# Altium integrated library Analog Devices Switches and Multiplexers Multiplexers (Muxes).IntLib: 481 symbols (part 23 of 23)
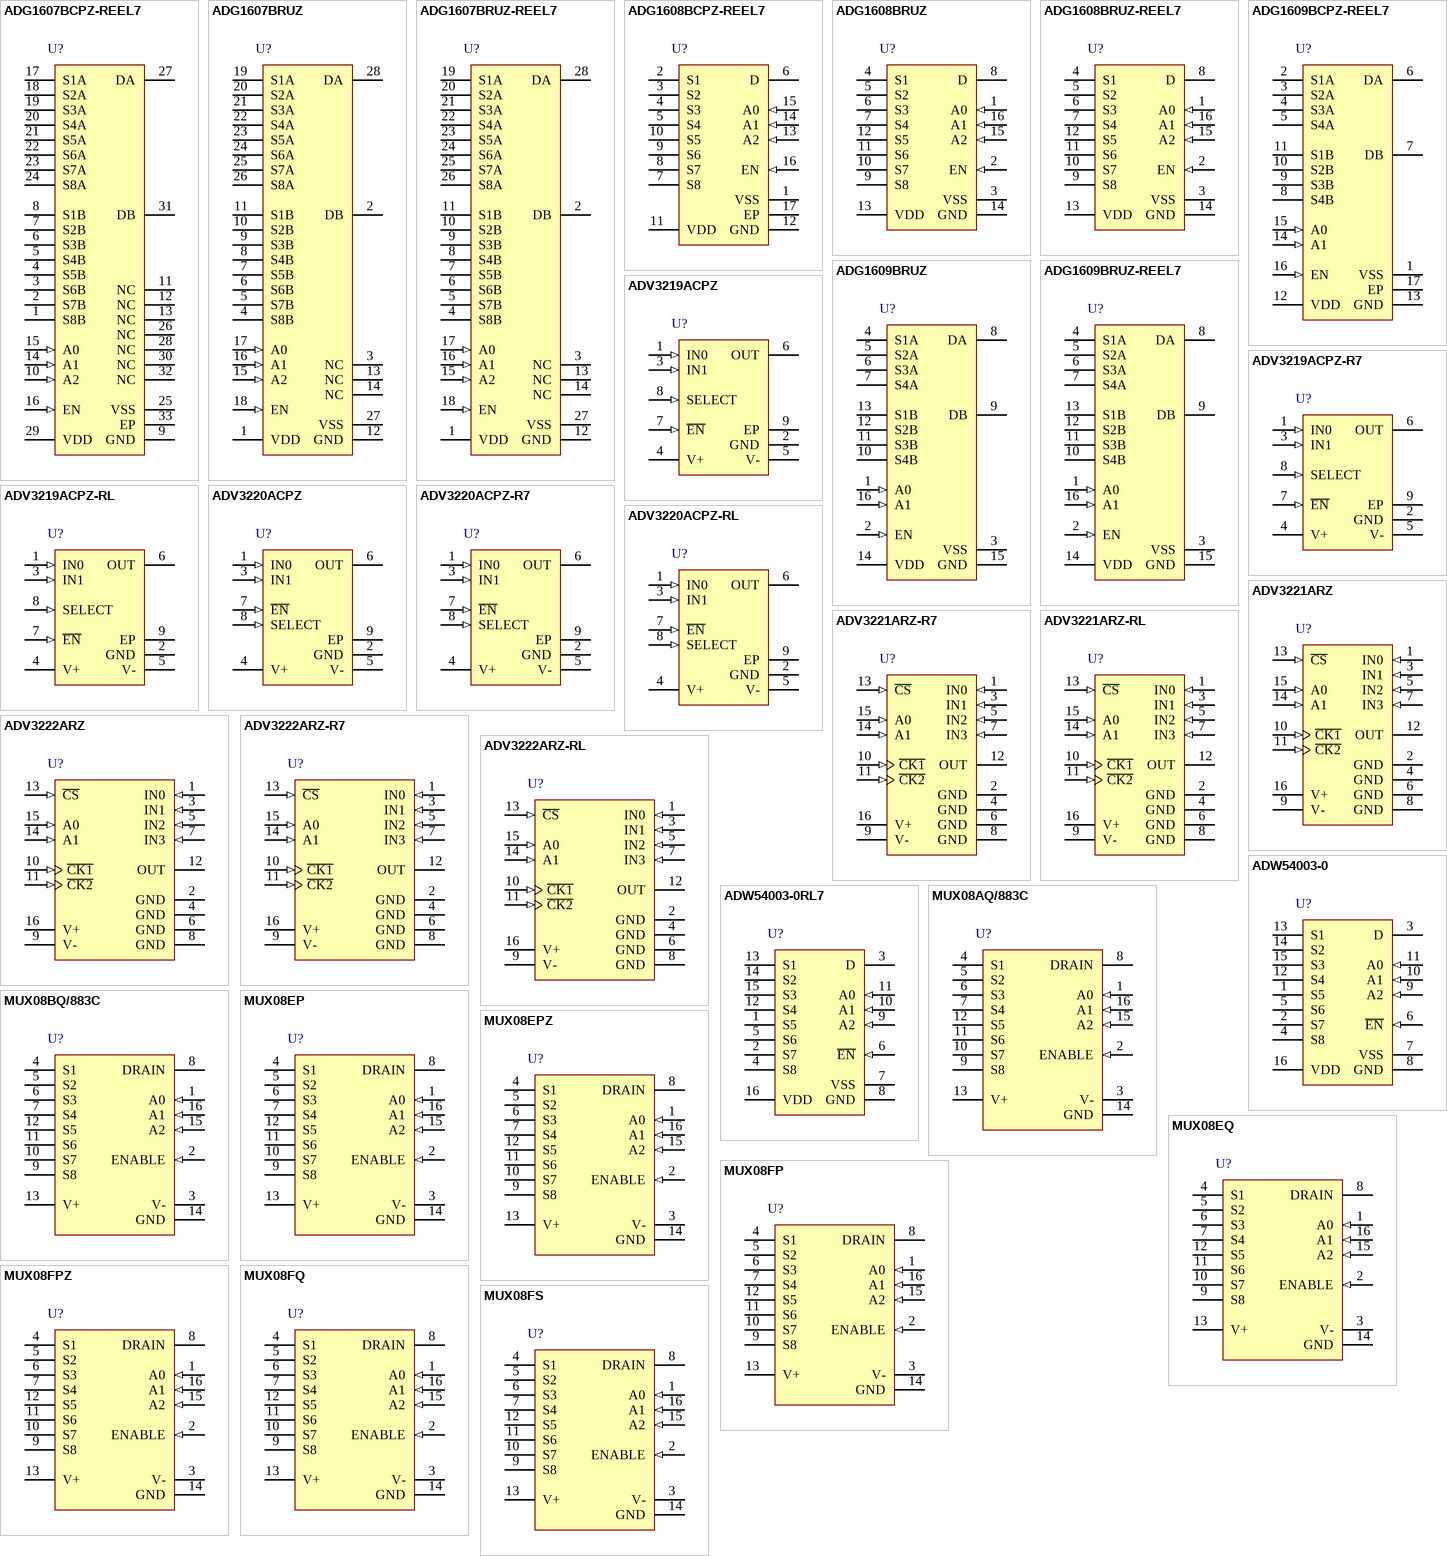
[diagram p39: symbols ADG1607BCPZ-REEL7 to MUX08FS]

## ADV3221ARZ-RL
designator U?
1000 MHz, 4:1 Analog Multiplexer, 5 ns, -40 to 85 degC, 16-pin SOIC (R-16), Reel; Manufacturer: Analog Devices; PartNumber: ADV3221ARZ-RL; Bandwidth (Hz): 1000M; Max Analog Signal Range: +/-3V; Supply V Guar Performance: Dual_(+/-5V); t transition (s): 1n; DatasheetVersion: Rev. 0; PackageVersion: 060606-A, 06/2006; PackageReference: R-16; PackageDescription: 16-Pin Standard Small Outline Package, Body 9.9 x 3.9 mm, Pitch 1.27 mm; Supplier 1: Digi-Key; Supplier Part Number 1: ADV3221ARZ-RL-ND; Supplier 2: Mouser; Supplier Part Number 2: 584-ADV3221ARZ-R; Packing: Reel; Mounting Technology: Surface Mount; Code_JEDEC: MS-012-AC; ComponentLink1Description: Manufacturer URL; ComponentLink1URL: http://www.analog.com/en/index.html; ComponentLink2Description: Datasheet; ComponentLink2URL: http://www.analog.com/static/imported-files/data_sheets/ADV3221_3222.pdf; ComponentLink3Description: Package Specification; ComponentLink3URL: http://www.analog.com/static/imported-files/packages/PKG_PDF/SOIC_Narrow%20(R)/R_16.pdf
footprint ADI-R-16_N (SOIC, 16-Leads, Body 9.9x3.9mm, Pitch 1.27mm, IPC Medium Density)
footprint ADI-R-16_L (SOIC, 16-Leads, Body 9.9x3.9mm, Pitch 1.27mm, IPC High Density)
footprint ADI-R-16_M (SOIC, 16-Leads, Body 9.9x3.9mm, Pitch 1.27mm, IPC Low Density)
pins: 1 IN0 (in) "Analog Input", 2 GND (power) "Ground", 3 IN1 (in) "Analog Input", 4 GND (power) "Ground", 5 IN2 (in) "Analog Input", 6 GND (power) "Ground", 7 IN3 (in) "Analog Input", 8 GND (power) "Ground", 9 V- (power) "Negative Power Supply", 10 ~{CK1} (in) "First Rank Clock", 11 ~{CK2} (in) "Second Rank Clock", 12 OUT (hiz) "Analog Output", 13 ~{CS} (in) "Chip Select (Output Enable)", 14 A1 (in) "Select Address Most Significant Bit", 15 A0 (in) "Select Address Least Significant Bit", 16 V+ (power) "Positive Power Supply"

## ADV3222ARZ
designator U?
800 MHz, 4:1 Analog Multiplexer, 5 ns, -40 to 85 degC, 16-pin SOIC (R-16), Tube; Manufacturer: Analog Devices; PartNumber: ADV3222ARZ; Bandwidth (Hz): 800M; Max Analog Signal Range: +/-1.5V; Supply V Guar Performance: Dual_(+/-5V); t transition (s): 1n; DatasheetVersion: Rev. 0; PackageVersion: 060606-A, 06/2006; PackageReference: R-16; PackageDescription: 16-Pin Standard Small Outline Package, Body 9.9 x 3.9 mm, Pitch 1.27 mm; Supplier 1: Digi-Key; Supplier Part Number 1: ADV3222ARZ-ND; Supplier 2: Newark; Supplier Part Number 2: 74R5952; Supplier 3: Mouser; Supplier Part Number 3: 584-ADV3222ARZ; Packing: Tube; Mounting Technology: Surface Mount; Code_JEDEC: MS-012-AC; ComponentLink1Description: Manufacturer URL; ComponentLink1URL: http://www.analog.com/en/index.html; ComponentLink2Description: Datasheet; ComponentLink2URL: http://www.analog.com/static/imported-files/data_sheets/ADV3221_3222.pdf; ComponentLink3Description: Package Specification; ComponentLink3URL: http://www.analog.com/static/imported-files/packages/PKG_PDF/SOIC_Narrow%20(R)/R_16.pdf
footprint ADI-R-16_N (SOIC, 16-Leads, Body 9.9x3.9mm, Pitch 1.27mm, IPC Medium Density)
footprint ADI-R-16_L (SOIC, 16-Leads, Body 9.9x3.9mm, Pitch 1.27mm, IPC High Density)
footprint ADI-R-16_M (SOIC, 16-Leads, Body 9.9x3.9mm, Pitch 1.27mm, IPC Low Density)
pins: 1 IN0 (in) "Analog Input", 2 GND (power) "Ground", 3 IN1 (in) "Analog Input", 4 GND (power) "Ground", 5 IN2 (in) "Analog Input", 6 GND (power) "Ground", 7 IN3 (in) "Analog Input", 8 GND (power) "Ground", 9 V- (power) "Negative Power Supply", 10 ~{CK1} (in) "First Rank Clock", 11 ~{CK2} (in) "Second Rank Clock", 12 OUT (hiz) "Analog Output", 13 ~{CS} (in) "Chip Select (Output Enable)", 14 A1 (in) "Select Address Most Significant Bit", 15 A0 (in) "Select Address Least Significant Bit", 16 V+ (power) "Positive Power Supply"

## ADV3222ARZ-R7
designator U?
800 MHz, 4:1 Analog Multiplexer, 5 ns, -40 to 85 degC, 16-pin SOIC (R-16), Reel; Manufacturer: Analog Devices; PartNumber: ADV3222ARZ-R7; Bandwidth (Hz): 800M; Max Analog Signal Range: +/-1.5V; Supply V Guar Performance: Dual_(+/-5V); t transition (s): 1n; DatasheetVersion: Rev. 0; PackageVersion: 060606-A, 06/2006; PackageReference: R-16; PackageDescription: 16-Pin Standard Small Outline Package, Body 9.9 x 3.9 mm, Pitch 1.27 mm; Supplier 1: Digi-Key; Supplier Part Number 1: ADV3222ARZ-R7-ND; Supplier 2: Mouser; Supplier Part Number 2: 584-ADV3222ARZ-R7; Packing: Reel; Mounting Technology: Surface Mount; Code_JEDEC: MS-012-AC; ComponentLink1Description: Manufacturer URL; ComponentLink1URL: http://www.analog.com/en/index.html; ComponentLink2Description: Datasheet; ComponentLink2URL: http://www.analog.com/static/imported-files/data_sheets/ADV3221_3222.pdf; ComponentLink3Description: Package Specification; ComponentLink3URL: http://www.analog.com/static/imported-files/packages/PKG_PDF/SOIC_Narrow%20(R)/R_16.pdf
footprint ADI-R-16_N (SOIC, 16-Leads, Body 9.9x3.9mm, Pitch 1.27mm, IPC Medium Density)
footprint ADI-R-16_L (SOIC, 16-Leads, Body 9.9x3.9mm, Pitch 1.27mm, IPC High Density)
footprint ADI-R-16_M (SOIC, 16-Leads, Body 9.9x3.9mm, Pitch 1.27mm, IPC Low Density)
pins: 1 IN0 (in) "Analog Input", 2 GND (power) "Ground", 3 IN1 (in) "Analog Input", 4 GND (power) "Ground", 5 IN2 (in) "Analog Input", 6 GND (power) "Ground", 7 IN3 (in) "Analog Input", 8 GND (power) "Ground", 9 V- (power) "Negative Power Supply", 10 ~{CK1} (in) "First Rank Clock", 11 ~{CK2} (in) "Second Rank Clock", 12 OUT (hiz) "Analog Output", 13 ~{CS} (in) "Chip Select (Output Enable)", 14 A1 (in) "Select Address Most Significant Bit", 15 A0 (in) "Select Address Least Significant Bit", 16 V+ (power) "Positive Power Supply"

## ADV3222ARZ-RL
designator U?
800 MHz, 4:1 Analog Multiplexer, 5 ns, -40 to 85 degC, 16-pin SOIC (R-16), Reel; Manufacturer: Analog Devices; PartNumber: ADV3222ARZ-RL; Bandwidth (Hz): 800M; Max Analog Signal Range: +/-1.5V; Supply V Guar Performance: Dual_(+/-5V); t transition (s): 1n; DatasheetVersion: Rev. 0; PackageVersion: 060606-A, 06/2006; PackageReference: R-16; PackageDescription: 16-Pin Standard Small Outline Package, Body 9.9 x 3.9 mm, Pitch 1.27 mm; Supplier 1: Digi-Key; Supplier Part Number 1: ADV3222ARZ-RL-ND; Supplier 2: Mouser; Supplier Part Number 2: 584-ADV3222ARZ-R; Packing: Reel; Mounting Technology: Surface Mount; Code_JEDEC: MS-012-AC; ComponentLink1Description: Manufacturer URL; ComponentLink1URL: http://www.analog.com/en/index.html; ComponentLink2Description: Datasheet; ComponentLink2URL: http://www.analog.com/static/imported-files/data_sheets/ADV3221_3222.pdf; ComponentLink3Description: Package Specification; ComponentLink3URL: http://www.analog.com/static/imported-files/packages/PKG_PDF/SOIC_Narrow%20(R)/R_16.pdf
footprint ADI-R-16_N (SOIC, 16-Leads, Body 9.9x3.9mm, Pitch 1.27mm, IPC Medium Density)
footprint ADI-R-16_L (SOIC, 16-Leads, Body 9.9x3.9mm, Pitch 1.27mm, IPC High Density)
footprint ADI-R-16_M (SOIC, 16-Leads, Body 9.9x3.9mm, Pitch 1.27mm, IPC Low Density)
pins: 1 IN0 (in) "Analog Input", 2 GND (power) "Ground", 3 IN1 (in) "Analog Input", 4 GND (power) "Ground", 5 IN2 (in) "Analog Input", 6 GND (power) "Ground", 7 IN3 (in) "Analog Input", 8 GND (power) "Ground", 9 V- (power) "Negative Power Supply", 10 ~{CK1} (in) "First Rank Clock", 11 ~{CK2} (in) "Second Rank Clock", 12 OUT (hiz) "Analog Output", 13 ~{CS} (in) "Chip Select (Output Enable)", 14 A1 (in) "Select Address Most Significant Bit", 15 A0 (in) "Select Address Least Significant Bit", 16 V+ (power) "Positive Power Supply"

## ADW54003-0
designator U?
3 V / 5 V / +/-5 V, CMOS 8-Channel Analog Multiplexer, -40 to 125 degC, 16-pin SOP (RU-16), Tube; Manufacturer: Analog Devices; PartNumber: ADW54003-0; Bandwidth (Hz): 210M; Max Analog Signal Range: Vss to Vdd; Ron (ohms): 45; Supply V Guar Performance: Dual_(+/-5V), Single_(+3.3V), Single_(+3V), Single_(+5V); t transition (s): 80n; DatasheetVersion: Rev. B; PackageVersion: Nov-02; PackageReference: RU-16; PackageDescription: 16-Pin Thin Shrink Small Outline Package, Body 5 x 4.4 mm, Pitch 0.65 mm; Supplier 1: Digi-Key; Supplier Part Number 1: ADW54003-0-ND; Supplier 2: Mouser; Supplier Part Number 2: 584-ADW54003-0; Packing: Tube; Mounting Technology: Surface Mount; Code_JEDEC: MO-153AB; ComponentLink1Description: Manufacturer URL; ComponentLink1URL: http://www.analog.com/en/index.html; ComponentLink2Description: Datasheet; ComponentLink2URL: http://www.analog.com/static/imported-files/data_sheets/ADG658_659.pdf; ComponentLink3Description: Package Specification; ComponentLink3URL: http:/www.analog.com/static/imported-files/packages/36244347913743854010197452789RU16.pdf
footprint ADI-RU-16_N (SOP, 16-Leads, Body 5x4.4mm, Pitch 0.65mm, IPC Medium Density)
footprint ADI-RU-16_L (SOP, 16-Leads, Body 5x4.4mm, Pitch 0.65mm, IPC High Density)
footprint ADI-RU-16_M (SOP, 16-Leads, Body 5x4.4mm, Pitch 0.65mm, IPC Low Density)
pins: 1 S5 "Source Terminal. May be an input or output.", 2 S7 "Source Terminal. May be an input or output.", 3 D "Drain Terminal. May be an input or output.", 4 S8 "Source Terminal. May be an input or output.", 5 S6 "Source Terminal. May be an input or output.", 6 ~{EN} (in) "Active Low Digital Input. When high, device is disabled and all switches are OFF. When low, AX logic inputs determine ON switch.", 7 VSS (power) "Most Negative Power Supply Potential.", 8 GND (power) "Ground (0 V) Reference.", 9 A2 (in) "Logic Control Input.", 10 A1 (in) "Logic Control Input.", 11 A0 (in) "Logic Control Input.", 12 S4 "Source Terminal. May be an input or output.", 13 S1 "Source Terminal. May be an input or output.", 14 S2 "Source Terminal. May be an input or output.", 15 S3 "Source Terminal. May be an input or output.", 16 VDD (power) "Most Positive Power Supply Potential."

## ADW54003-0RL7
designator U?
3 V / 5 V / +/-5 V, CMOS 8-Channel Analog Multiplexer, -40 to 125 degC, 16-pin SOP (RU-16), Reel; Manufacturer: Analog Devices; PartNumber: ADW54003-0RL7; Bandwidth (Hz): 210M; Max Analog Signal Range: Vss to Vdd; Ron (ohms): 45; Supply V Guar Performance: Dual_(+/-5V), Single_(+3.3V), Single_(+3V), Single_(+5V); t transition (s): 80n; DatasheetVersion: Rev. B; PackageVersion: Nov-02; PackageReference: RU-16; PackageDescription: 16-Pin Thin Shrink Small Outline Package, Body 5 x 4.4 mm, Pitch 0.65 mm; Supplier 1: Digi-Key; Supplier Part Number 1: ADW54003-0RL7-ND; Supplier 2: Mouser; Supplier Part Number 2: 584-ADW54003-0R7; Packing: Reel; Mounting Technology: Surface Mount; Code_JEDEC: MO-153AB; ComponentLink1Description: Manufacturer URL; ComponentLink1URL: http://www.analog.com/en/index.html; ComponentLink2Description: Datasheet; ComponentLink2URL: http://www.analog.com/static/imported-files/data_sheets/ADG658_659.pdf; ComponentLink3Description: Package Specification; ComponentLink3URL: http:/www.analog.com/static/imported-files/packages/36244347913743854010197452789RU16.pdf
footprint ADI-RU-16_N (SOP, 16-Leads, Body 5x4.4mm, Pitch 0.65mm, IPC Medium Density)
footprint ADI-RU-16_L (SOP, 16-Leads, Body 5x4.4mm, Pitch 0.65mm, IPC High Density)
footprint ADI-RU-16_M (SOP, 16-Leads, Body 5x4.4mm, Pitch 0.65mm, IPC Low Density)
pins: 1 S5 "Source Terminal. May be an input or output.", 2 S7 "Source Terminal. May be an input or output.", 3 D "Drain Terminal. May be an input or output.", 4 S8 "Source Terminal. May be an input or output.", 5 S6 "Source Terminal. May be an input or output.", 6 ~{EN} (in) "Active Low Digital Input. When high, device is disabled and all switches are OFF. When low, AX logic inputs determine ON switch.", 7 VSS (power) "Most Negative Power Supply Potential.", 8 GND (power) "Ground (0 V) Reference.", 9 A2 (in) "Logic Control Input.", 10 A1 (in) "Logic Control Input.", 11 A0 (in) "Logic Control Input.", 12 S4 "Source Terminal. May be an input or output.", 13 S1 "Source Terminal. May be an input or output.", 14 S2 "Source Terminal. May be an input or output.", 15 S3 "Source Terminal. May be an input or output.", 16 VDD (power) "Most Positive Power Supply Potential."

## MUX08AQ/883C
designator U?
8-Chan JFET Analog Multiplexer (Overvoltage & Power Supply Loss Protected), -55 to 125 degC, 16-pin DIP (Q-16), Tube; Manufacturer: Analog Devices; PartNumber: MUX08AQ/883C; Max Analog Signal Range: +/-10V; Ron (ohms): 220; Supply V Guar Performance: Dual_(+/-15V); t transition (s): 1.5u; DatasheetVersion: Rev. A; PackageVersion: Aug-05; PackageReference: Q-16; PackageDescription: 16-Pin Ceramic Dual In-Line Package, Row spacing 7.62 mm, Pitch 2.54 mm; Supplier 1: Mouser; Supplier Part Number 1: 584-MUX08AQ883C; Packing: Tube; Mounting Technology: Through Hole; ComponentLink1Description: Manufacturer URL; ComponentLink1URL: http://www.analog.com/en/index.html; ComponentLink2Description: Datasheet; ComponentLink2URL: http://www.analog.com/static/imported-files/data_sheets/MUX08.pdf; ComponentLink3Description: Package Specification; ComponentLink3URL: http://www.analog.com/static/imported-files/packages/54083157002221Q_16.pdf
footprint ADI-Q-16 (DIP, 16-Leads, Body 21.34x6.73mm, Pitch 2.54mm)
pins: 1 A0 (in), 2 ENABLE (in), 3 V- (power), 4 S1, 5 S2, 6 S3, 7 S4, 8 DRAIN, 9 S8, 10 S7, 11 S6, 12 S5, 13 V+ (power), 14 GND (power), 15 A2 (in), 16 A1 (in)

## MUX08BQ/883C
designator U?
8-Chan JFET Analog Multiplexer (Overvoltage & Power Supply Loss Protected), -55 to 125 degC, 16-pin DIP (Q-16), Tube; Manufacturer: Analog Devices; PartNumber: MUX08BQ/883C; Max Analog Signal Range: +/-10V; Ron (ohms): 220; Supply V Guar Performance: Dual_(+/-15V); t transition (s): 1.5u; DatasheetVersion: Rev. A; PackageVersion: Aug-05; PackageReference: Q-16; PackageDescription: 16-Pin Ceramic Dual In-Line Package, Row spacing 7.62 mm, Pitch 2.54 mm; Supplier 1: Mouser; Supplier Part Number 1: 584-MUX08BQ883C; Packing: Tube; Mounting Technology: Through Hole; ComponentLink1Description: Manufacturer URL; ComponentLink1URL: http://www.analog.com/en/index.html; ComponentLink2Description: Datasheet; ComponentLink2URL: http://www.analog.com/static/imported-files/data_sheets/MUX08.pdf; ComponentLink3Description: Package Specification; ComponentLink3URL: http://www.analog.com/static/imported-files/packages/54083157002221Q_16.pdf
footprint ADI-Q-16 (DIP, 16-Leads, Body 21.34x6.73mm, Pitch 2.54mm)
pins: 1 A0 (in), 2 ENABLE (in), 3 V- (power), 4 S1, 5 S2, 6 S3, 7 S4, 8 DRAIN, 9 S8, 10 S7, 11 S6, 12 S5, 13 V+ (power), 14 GND (power), 15 A2 (in), 16 A1 (in)

## MUX08EP
designator U?
8-Chan JFET Analog Multiplexer (Overvoltage & Power Supply Loss Protected), 0 to 70 degC, 16-pin DIP (N-16), Tube; Manufacturer: Analog Devices; PartNumber: MUX08EP; Max Analog Signal Range: +/-10V; Ron (ohms): 220; Supply V Guar Performance: Dual_(+/-15V); t transition (s): 1.5u; DatasheetVersion: Rev. A; PackageVersion: 070706-A, 07/2006; PackageReference: N-16; PackageDescription: 16-Pin Plastic Dual In-Line Package, Row spacing 7.62 mm, Pitch 2.54 mm; Supplier 1: Digi-Key; Supplier Part Number 1: MUX08EP-ND; Supplier 2: Newark; Supplier Part Number 2: 05F8315; Supplier 3: Mouser; Supplier Part Number 3: 584-MUX08EP; Packing: Tube; Mounting Technology: Through Hole; Code_JEDEC: MS-001; ComponentLink1Description: Manufacturer URL; ComponentLink1URL: http://www.analog.com/en/index.html; ComponentLink2Description: Datasheet; ComponentLink2URL: http://www.analog.com/static/imported-files/data_sheets/MUX08.pdf; ComponentLink3Description: Package Specification; ComponentLink3URL: http://www.analog.com/static/imported-files/packages/44768431550332N_16.pdf
footprint ADI-N-16 (DIP, 16-Leads, Body 20.07x6.6mm, Pitch 2.54mm)
pins: 1 A0 (in), 2 ENABLE (in), 3 V- (power), 4 S1, 5 S2, 6 S3, 7 S4, 8 DRAIN, 9 S8, 10 S7, 11 S6, 12 S5, 13 V+ (power), 14 GND (power), 15 A2 (in), 16 A1 (in)

## MUX08EPZ
designator U?
8-Chan JFET Analog Multiplexer (Overvoltage & Power Supply Loss Protected), 0 to 70 degC, 16-pin DIP (N-16), Tube; Manufacturer: Analog Devices; PartNumber: MUX08EPZ; Max Analog Signal Range: +/-10V; Ron (ohms): 220; Supply V Guar Performance: Dual_(+/-15V); t transition (s): 1.5u; DatasheetVersion: Rev. A; PackageVersion: 070706-A, 07/2006; PackageReference: N-16; PackageDescription: 16-Pin Plastic Dual In-Line Package, Row spacing 7.62 mm, Pitch 2.54 mm; Supplier 1: Digi-Key; Supplier Part Number 1: MUX08EPZ-ND; Supplier 2: Newark; Supplier Part Number 2: 13M2537; Supplier 3: Mouser; Supplier Part Number 3: 584-MUX08EPZ; Packing: Tube; Mounting Technology: Through Hole; Code_JEDEC: MS-001; ComponentLink1Description: Manufacturer URL; ComponentLink1URL: http://www.analog.com/en/index.html; ComponentLink2Description: Datasheet; ComponentLink2URL: http://www.analog.com/static/imported-files/data_sheets/MUX08.pdf; ComponentLink3Description: Package Specification; ComponentLink3URL: http://www.analog.com/static/imported-files/packages/44768431550332N_16.pdf
footprint ADI-N-16 (DIP, 16-Leads, Body 20.07x6.6mm, Pitch 2.54mm)
pins: 1 A0 (in), 2 ENABLE (in), 3 V- (power), 4 S1, 5 S2, 6 S3, 7 S4, 8 DRAIN, 9 S8, 10 S7, 11 S6, 12 S5, 13 V+ (power), 14 GND (power), 15 A2 (in), 16 A1 (in)

## MUX08EQ
designator U?
8-Chan JFET Analog Multiplexer (Overvoltage & Power Supply Loss Protected), -25 to 85 degC, 16-pin DIP (Q-16), Tube; Manufacturer: Analog Devices; PartNumber: MUX08EQ; Max Analog Signal Range: +/-10V; Ron (ohms): 220; Supply V Guar Performance: Dual_(+/-15V); t transition (s): 1.5u; DatasheetVersion: Rev. A; PackageVersion: Aug-05; PackageReference: Q-16; PackageDescription: 16-Pin Ceramic Dual In-Line Package, Row spacing 7.62 mm, Pitch 2.54 mm; Supplier 1: Digi-Key; Supplier Part Number 1: MUX08EQ-ND; Supplier 2: Newark; Supplier Part Number 2: 05F8316; Supplier 3: Mouser; Supplier Part Number 3: 584-MUX08EQ; Packing: Tube; Mounting Technology: Through Hole; ComponentLink1Description: Manufacturer URL; ComponentLink1URL: http://www.analog.com/en/index.html; ComponentLink2Description: Datasheet; ComponentLink2URL: http://www.analog.com/static/imported-files/data_sheets/MUX08.pdf; ComponentLink3Description: Package Specification; ComponentLink3URL: http://www.analog.com/static/imported-files/packages/54083157002221Q_16.pdf
footprint ADI-Q-16 (DIP, 16-Leads, Body 21.34x6.73mm, Pitch 2.54mm)
pins: 1 A0 (in), 2 ENABLE (in), 3 V- (power), 4 S1, 5 S2, 6 S3, 7 S4, 8 DRAIN, 9 S8, 10 S7, 11 S6, 12 S5, 13 V+ (power), 14 GND (power), 15 A2 (in), 16 A1 (in)

## MUX08FP
designator U?
8-Chan JFET Analog Multiplexer (Overvoltage & Power Supply Loss Protected), -40 to 85 degC, 16-pin DIP (N-16), Tube; Manufacturer: Analog Devices; PartNumber: MUX08FP; Max Analog Signal Range: +/-10V; Ron (ohms): 220; Supply V Guar Performance: Dual_(+/-15V); t transition (s): 1.5u; DatasheetVersion: Rev. A; PackageVersion: 070706-A, 07/2006; PackageReference: N-16; PackageDescription: 16-Pin Plastic Dual In-Line Package, Row spacing 7.62 mm, Pitch 2.54 mm; Supplier 1: Digi-Key; Supplier Part Number 1: MUX08FP-ND; Supplier 2: Mouser; Supplier Part Number 2: 584-MUX08FP; Packing: Tube; Mounting Technology: Through Hole; Code_JEDEC: MS-001; ComponentLink1Description: Manufacturer URL; ComponentLink1URL: http://www.analog.com/en/index.html; ComponentLink2Description: Datasheet; ComponentLink2URL: http://www.analog.com/static/imported-files/data_sheets/MUX08.pdf; ComponentLink3Description: Package Specification; ComponentLink3URL: http://www.analog.com/static/imported-files/packages/44768431550332N_16.pdf
footprint ADI-N-16 (DIP, 16-Leads, Body 20.07x6.6mm, Pitch 2.54mm)
pins: 1 A0 (in), 2 ENABLE (in), 3 V- (power), 4 S1, 5 S2, 6 S3, 7 S4, 8 DRAIN, 9 S8, 10 S7, 11 S6, 12 S5, 13 V+ (power), 14 GND (power), 15 A2 (in), 16 A1 (in)

## MUX08FPZ
designator U?
8-Chan JFET Analog Multiplexer (Overvoltage & Power Supply Loss Protected), -40 to 85 degC, 16-pin DIP (N-16), Tube; Manufacturer: Analog Devices; PartNumber: MUX08FPZ; Max Analog Signal Range: +/-10V; Ron (ohms): 220; Supply V Guar Performance: Dual_(+/-15V); t transition (s): 1.5u; DatasheetVersion: Rev. A; PackageVersion: 070706-A, 07/2006; PackageReference: N-16; PackageDescription: 16-Pin Plastic Dual In-Line Package, Row spacing 7.62 mm, Pitch 2.54 mm; Supplier 1: Digi-Key; Supplier Part Number 1: MUX08FPZ-ND; Supplier 2: Farnell; Supplier Part Number 2: 1079379; Supplier 3: Newark; Supplier Part Number 3: 13M2538; Supplier 4: Mouser; Supplier Part Number 4: 584-MUX08FPZ; Packing: Tube; Mounting Technology: Through Hole; Code_JEDEC: MS-001; ComponentLink1Description: Manufacturer URL; ComponentLink1URL: http://www.analog.com/en/index.html; ComponentLink2Description: Datasheet; ComponentLink2URL: http://www.analog.com/static/imported-files/data_sheets/MUX08.pdf; ComponentLink3Description: Package Specification; ComponentLink3URL: http://www.analog.com/static/imported-files/packages/44768431550332N_16.pdf
footprint ADI-N-16 (DIP, 16-Leads, Body 20.07x6.6mm, Pitch 2.54mm)
pins: 1 A0 (in), 2 ENABLE (in), 3 V- (power), 4 S1, 5 S2, 6 S3, 7 S4, 8 DRAIN, 9 S8, 10 S7, 11 S6, 12 S5, 13 V+ (power), 14 GND (power), 15 A2 (in), 16 A1 (in)

## MUX08FQ
designator U?
8-Chan JFET Analog Multiplexer (Overvoltage & Power Supply Loss Protected), -25 to 85 degC, 16-pin DIP (Q-16), Tube; Manufacturer: Analog Devices; PartNumber: MUX08FQ; Max Analog Signal Range: +/-10V; Ron (ohms): 220; Supply V Guar Performance: Dual_(+/-15V); t transition (s): 1.5u; DatasheetVersion: Rev. A; PackageVersion: Aug-05; PackageReference: Q-16; PackageDescription: 16-Pin Ceramic Dual In-Line Package, Row spacing 7.62 mm, Pitch 2.54 mm; Supplier 1: Digi-Key; Supplier Part Number 1: MUX08FQ-ND; Supplier 2: Newark; Supplier Part Number 2: 05F8318; Supplier 3: Mouser; Supplier Part Number 3: 584-MUX08FQ; Packing: Tube; Mounting Technology: Through Hole; ComponentLink1Description: Manufacturer URL; ComponentLink1URL: http://www.analog.com/en/index.html; ComponentLink2Description: Datasheet; ComponentLink2URL: http://www.analog.com/static/imported-files/data_sheets/MUX08.pdf; ComponentLink3Description: Package Specification; ComponentLink3URL: http://www.analog.com/static/imported-files/packages/54083157002221Q_16.pdf
footprint ADI-Q-16 (DIP, 16-Leads, Body 21.34x6.73mm, Pitch 2.54mm)
pins: 1 A0 (in), 2 ENABLE (in), 3 V- (power), 4 S1, 5 S2, 6 S3, 7 S4, 8 DRAIN, 9 S8, 10 S7, 11 S6, 12 S5, 13 V+ (power), 14 GND (power), 15 A2 (in), 16 A1 (in)

## MUX08FS
designator U?
8-Chan JFET Analog Multiplexer (Overvoltage & Power Supply Loss Protected), -40 to 85 degC, 16-pin SOIC (R-16), Tube; Manufacturer: Analog Devices; PartNumber: MUX08FS; Max Analog Signal Range: +/-10V; Ron (ohms): 220; Supply V Guar Performance: Dual_(+/-15V); t transition (s): 1.5u; DatasheetVersion: Rev. A; PackageVersion: 060606-A, 06/2006; PackageReference: R-16; PackageDescription: 16-Pin Standard Small Outline Package, Body 9.9 x 3.9 mm, Pitch 1.27 mm; Supplier 1: Digi-Key; Supplier Part Number 1: MUX08FS-ND; Supplier 2: Mouser; Supplier Part Number 2: 584-MUX08FS; Packing: Tube; Mounting Technology: Surface Mount; Code_JEDEC: MS-012-AC; ComponentLink1Description: Manufacturer URL; ComponentLink1URL: http://www.analog.com/en/index.html; ComponentLink2Description: Datasheet; ComponentLink2URL: http://www.analog.com/static/imported-files/data_sheets/MUX08.pdf; ComponentLink3Description: Package Specification; ComponentLink3URL: http://www.analog.com/static/imported-files/packages/PKG_PDF/SOIC_Narrow%20(R)/R_16.pdf
footprint ADI-R-16_N (SOIC, 16-Leads, Body 9.9x3.9mm, Pitch 1.27mm, IPC Medium Density)
footprint ADI-R-16_L (SOIC, 16-Leads, Body 9.9x3.9mm, Pitch 1.27mm, IPC High Density)
footprint ADI-R-16_M (SOIC, 16-Leads, Body 9.9x3.9mm, Pitch 1.27mm, IPC Low Density)
pins: 1 A0 (in), 2 ENABLE (in), 3 V- (power), 4 S1, 5 S2, 6 S3, 7 S4, 8 DRAIN, 9 S8, 10 S7, 11 S6, 12 S5, 13 V+ (power), 14 GND (power), 15 A2 (in), 16 A1 (in)

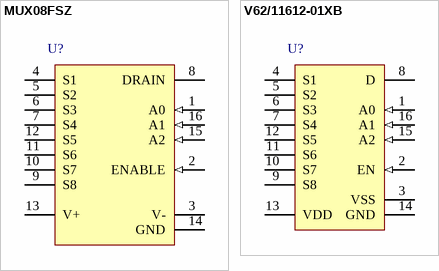
[diagram p17: symbols MUX08FSZ to V62/11612-01XB]

## MUX08FSZ
designator U?
8-Chan JFET Analog Multiplexer (Overvoltage & Power Supply Loss Protected), -40 to 85 degC, 16-pin SOIC (R-16), Tube; Manufacturer: Analog Devices; PartNumber: MUX08FSZ; Max Analog Signal Range: +/-10V; Ron (ohms): 220; Supply V Guar Performance: Dual_(+/-15V); t transition (s): 1.5u; DatasheetVersion: Rev. A; PackageVersion: 060606-A, 06/2006; PackageReference: R-16; PackageDescription: 16-Pin Standard Small Outline Package, Body 9.9 x 3.9 mm, Pitch 1.27 mm; Supplier 1: Digi-Key; Supplier Part Number 1: MUX08FSZ-ND; Supplier 2: Farnell; Supplier Part Number 2: 2192249; Supplier 3: Newark; Supplier Part Number 3: 59K8748; Supplier 4: Mouser; Supplier Part Number 4: 584-MUX08FSZ; Packing: Tube; Mounting Technology: Surface Mount; Code_JEDEC: MS-012-AC; ComponentLink1Description: Manufacturer URL; ComponentLink1URL: http://www.analog.com/en/index.html; ComponentLink2Description: Datasheet; ComponentLink2URL: http://www.analog.com/static/imported-files/data_sheets/MUX08.pdf; ComponentLink3Description: Package Specification; ComponentLink3URL: http://www.analog.com/static/imported-files/packages/PKG_PDF/SOIC_Narrow%20(R)/R_16.pdf
footprint ADI-R-16_N (SOIC, 16-Leads, Body 9.9x3.9mm, Pitch 1.27mm, IPC Medium Density)
footprint ADI-R-16_L (SOIC, 16-Leads, Body 9.9x3.9mm, Pitch 1.27mm, IPC High Density)
footprint ADI-R-16_M (SOIC, 16-Leads, Body 9.9x3.9mm, Pitch 1.27mm, IPC Low Density)
pins: 1 A0 (in), 2 ENABLE (in), 3 V- (power), 4 S1, 5 S2, 6 S3, 7 S4, 8 DRAIN, 9 S8, 10 S7, 11 S6, 12 S5, 13 V+ (power), 14 GND (power), 15 A2 (in), 16 A1 (in)

## V62/11612-01XB
designator U?
4 Ohm Ron, 8-Channel +/-15 V / +12 V / +/-5 V iCMOS Multiplexer, 16-pin SOP (RU-16), Reel; Manufacturer: Analog Devices; PartNumber: V62/11612-01XB; Bandwidth (Hz): 60M, 36M, 40M; Max Analog Signal Range: Vss to Vdd; Ron (ohms): 4; t transition (s): 140n; DatasheetVersion: Rev. B; PackageVersion: Nov-02; PackageReference: RU-16; PackageDescription: 16-Pin Thin Shrink Small Outline Package, Body 5 x 4.4 mm, Pitch 0.65 mm; Supplier 1: Mouser; Supplier Part Number 1: 584-V6211612-01XB; Packing: Reel; Mounting Technology: Surface Mount; Code_JEDEC: MO-153AB; ComponentLink1Description: Manufacturer URL; ComponentLink1URL: http://www.analog.com/en/index.html; ComponentLink2Description: Datasheet; ComponentLink2URL: http://www.analog.com/static/imported-files/data_sheets/ADG1408_1409.pdf; ComponentLink3Description: Package Specification; ComponentLink3URL: http:/www.analog.com/static/imported-files/packages/36244347913743854010197452789RU16.pdf
footprint ADI-RU-16_N (SOP, 16-Leads, Body 5x4.4mm, Pitch 0.65mm, IPC Medium Density)
footprint ADI-RU-16_L (SOP, 16-Leads, Body 5x4.4mm, Pitch 0.65mm, IPC High Density)
footprint ADI-RU-16_M (SOP, 16-Leads, Body 5x4.4mm, Pitch 0.65mm, IPC Low Density)
pins: 1 A0 (in) "Logic Control Input.", 2 EN (in) "Active High Digital Input. When low, the device is disabled and all switches are off. When high, Ax logic inputs determine on switches.", 3 VSS (power) "Most Negative Power Supply Potential. In single supply applications, it can be connected to ground.", 4 S1 "Source Terminal 1. Can be an input or an output.", 5 S2 "Source Terminal 2. Can be an input or an output.", 6 S3 "Source Terminal 3. Can be an input or an output.", 7 S4 "Source Terminal 4. Can be an input or an output.", 8 D "Drain Terminal. Can be an input or an output.", 9 S8 "Source Terminal 8. Can be an input or an output.", 10 S7 "Source Terminal 7. Can be an input or an output.", 11 S6 "Source Terminal 6. Can be an input or an output.", 12 S5 "Source Terminal 5. Can be an input or an output.", 13 VDD (power) "Most Positive Power Supply Potential.", 14 GND (power) "Ground (0 V) Reference.", 15 A2 (in) "Logic Control Input.", 16 A1 (in) "Logic Control Input."